# Altium footprint library L-07C27NJV6T.PcbLib: 3 footprints
Each footprint in its own frame and in the unit in brackets; x right, y up, seen from the top. Pads: shape width x height; smd on the part's side, far side on the other; paste and mask are expansions set on the pad; w line width, h text height; cw(c..) or ccw(c..) is an arc to the next point about the centre after c.
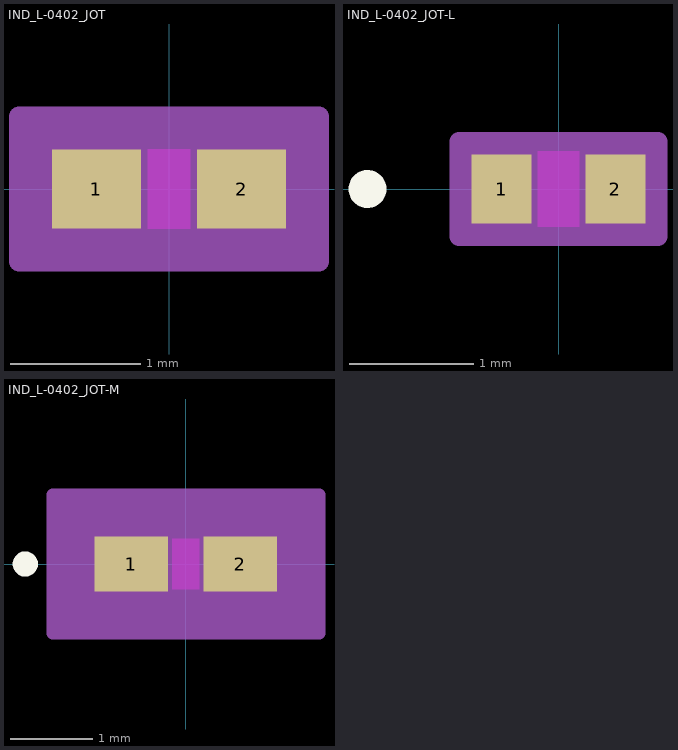
[diagram p0: the footprints below, top view; thin cyan lines are the x and y axes]

## IND_L-0402_JOT [mil]
pads (2):
  rect 27x24 smd paste+0 mask+0: 1(-22,0) 2(22,0)
Top Layer keep-out:
  region: -6.5,-10 -6.5,10 6.5,10 6.5,-10
Top Overlay:
  text ".Designator" at -137.5,-25 h50
Keep-Out Layer:
  region: -6.5,-12 -6.5,12 6.5,12 6.5,-12
Mechanical 13:
  circle w1: c-17,0 r0
  lines w1: -21.5,-12 -21.5,12 ; -21.5,-12 -8.5,-12 -8.5,12 -21.5,12 ; -21.5,-12 21.5,-12 ; -21.5,-12 -21.5,12 ; -21.5,12 21.5,12 ; 21.5,-12 8.5,-12 8.5,12 21.5,12 ; 21.5,-12 21.5,12 ; 21.5,-12 21.5,12
  text ".Designator" at -137.5,-25 h50
Mechanical 15:
  region: 45.5,-22 -45.5,-22 -45.5,22 45.5,22
  lines w6: -45.5,-22 -45.5,22 45.5,22 45.5,-22 -45.5,-22
3D body "IND_L-0402_JOT.step": height 24.02, standoff 0, extent -21.5,-12.01 21.5,12.01

## IND_L-0402_JOT-L [mil]
pads (2):
  rect 19x22 smd paste+0 mask+0: 1(-18,0) 2(18,0)
Top Layer keep-out:
  region: -6.5,-10 -6.5,10 6.5,10 6.5,-10
Top Overlay:
  circle w6: c-60.5,0 r3
  text ".Designator" at -137.5,-25 h50
Keep-Out Layer:
  region: -6.5,-12 -6.5,12 6.5,12 6.5,-12
Mechanical 13:
  circle w1: c-13,0 r3
  lines w1: -21.5,-12 -21.5,12 ; -21.5,-12 -8.5,-12 -8.5,12 -21.5,12 ; -21.5,-12 21.5,-12 ; -21.5,-12 -21.5,12 ; -21.5,12 21.5,12 ; 21.5,-12 8.5,-12 8.5,12 21.5,12 ; 21.5,-12 21.5,12 ; 21.5,-12 21.5,12
  text ".Designator" at -137.5,-25 h50
Mechanical 15:
  region: 31.5,-15 -31.5,-15 -31.5,15 31.5,15
  lines w6: -31.5,-15 -31.5,15 31.5,15 31.5,-15 -31.5,-15
3D body "IND_L-0402_JOT.step": height 24.02, standoff 0, extent -21.5,-12.01 21.5,12.01

## IND_L-0402_JOT-M [mil]
pads (2):
  rect 35x26 smd paste+0 mask+0: 1(-26,0) 2(26,0)
Top Layer keep-out:
  region: -6.5,-10 -6.5,10 6.5,10 6.5,-10
Top Overlay:
  circle w6: c-76.5,0 r3
  text ".Designator" at -137.5,-25 h50
Keep-Out Layer:
  region: -6.5,-12 -6.5,12 6.5,12 6.5,-12
Mechanical 13:
  circle w1: c-21,0 r3
  lines w1: -21.5,-12 -21.5,12 ; -21.5,-12 -8.5,-12 -8.5,12 -21.5,12 ; -21.5,-12 21.5,-12 ; -21.5,-12 -21.5,12 ; -21.5,12 21.5,12 ; 21.5,-12 8.5,-12 8.5,12 21.5,12 ; 21.5,-12 21.5,12 ; 21.5,-12 21.5,12
  text ".Designator" at -137.5,-25 h50
Mechanical 15:
  region: 63.5,-33 -63.5,-33 -63.5,33 63.5,33
  lines w6: -63.5,-33 -63.5,33 63.5,33 63.5,-33 -63.5,-33
3D body "IND_L-0402_JOT.step": height 24.02, standoff 0, extent -21.5,-12.01 21.5,12.01